# Altium schematic symbol library TIMER-555.SCHLIB: 1 symbol
Pins are listed as number, name and electrical type; pins without a type are passive.

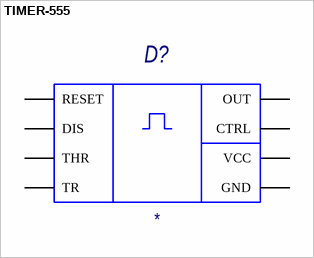
[diagram p0: symbol TIMER-555]

## TIMER-555
designator D?
Caption: *
pins: 1 GND, 2 TR, 3 OUT, 4 RESET, 5 CTRL, 6 THR, 7 DIS, 8 VCC